# EAGLE library part LT8365HMSE#PBF (library LT8365HMSE#PBF)
Switching Voltage Regulators 60VIN Boost/SEPIC/Inv Conv 1.5A/150 PR S Source: Datasheet <https://www.analog.com/media/en/technical-documentation/data-sheets/LT8365.pdf>
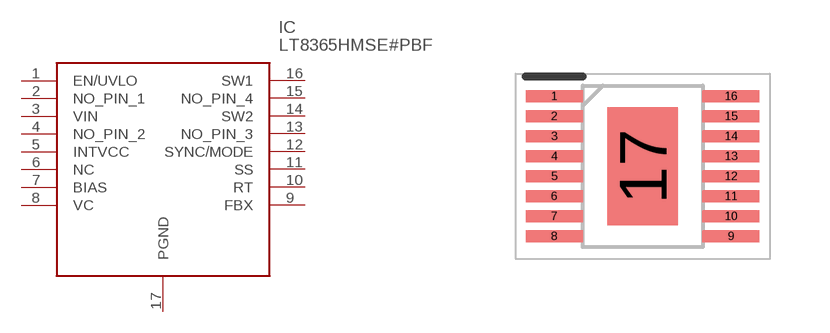
[diagram p0: symbol with the pads of SOP50P490X110-17N; footprint SOP50P490X110-17N]

Designator prefix IC

## LT8365HMSE#PBF (Description: Switching Voltage Regulators 60VIN Boost/SEPIC/Inv Conv 1.5A/150 PR S; Height: 1.1mm; Manufacturer_Name: Analog Devices; Manufacturer_Part_Number: LT8365HMSE#PBF; Mouser_Part_Number: 584-LT8365HMSE#PBF; Mouser_Price-Stock: https://www.mouser.co.uk/ProductDetail/Analog-Devices/LT8365HMSEPBF?qs=GBLSl2Akirvi5%252BAyHwg2vw%3D%3D)  [SOP50P490X110-17N]
1  EN/UVLO
2  NO_PIN_1
3  VIN
4  NO_PIN_2
5  INTVCC
6  NC  nc
7  BIAS
8  VC
9  FBX
10  RT
11  SS
12  SYNC/MODE
13  NO_PIN_3
14  SW2
15  NO_PIN_4
16  SW1
17  PGND

## Footprint SOP50P490X110-17N (pad centres in mm)
MSE Package Variation: MSE16 (12) 16-Lead Plastic MSOP with 4 Pins Removed Exposed Die Pad
smd 1.425 x 0.3: 1 -2.212,1.75; 2 -2.212,1.25; 3 -2.212,0.75; 4 -2.212,0.25; 5 -2.212,-0.25; 6 -2.212,-0.75; 7 -2.212,-1.25; 8 -2.212,-1.75; 9 2.212,-1.75; 10 2.212,-1.25; 11 2.212,-0.75; 12 2.212,-0.25; 13 2.212,0.25; 14 2.212,0.75; 15 2.212,1.25; 16 2.212,1.75
smd 1.753 x 2.947: 17 0,0